# Altium footprint library MPPT_600W.PcbLib: 19 footprints (part 1 of 2)
Each footprint in its own frame and in the unit in brackets; x right, y up, seen from the top. Pads: shape width x height; smd on the part's side, far side on the other; paste and mask are expansions set on the pad; w line width, h text height; cw(c..) or ccw(c..) is an arc to the next point about the centre after c.
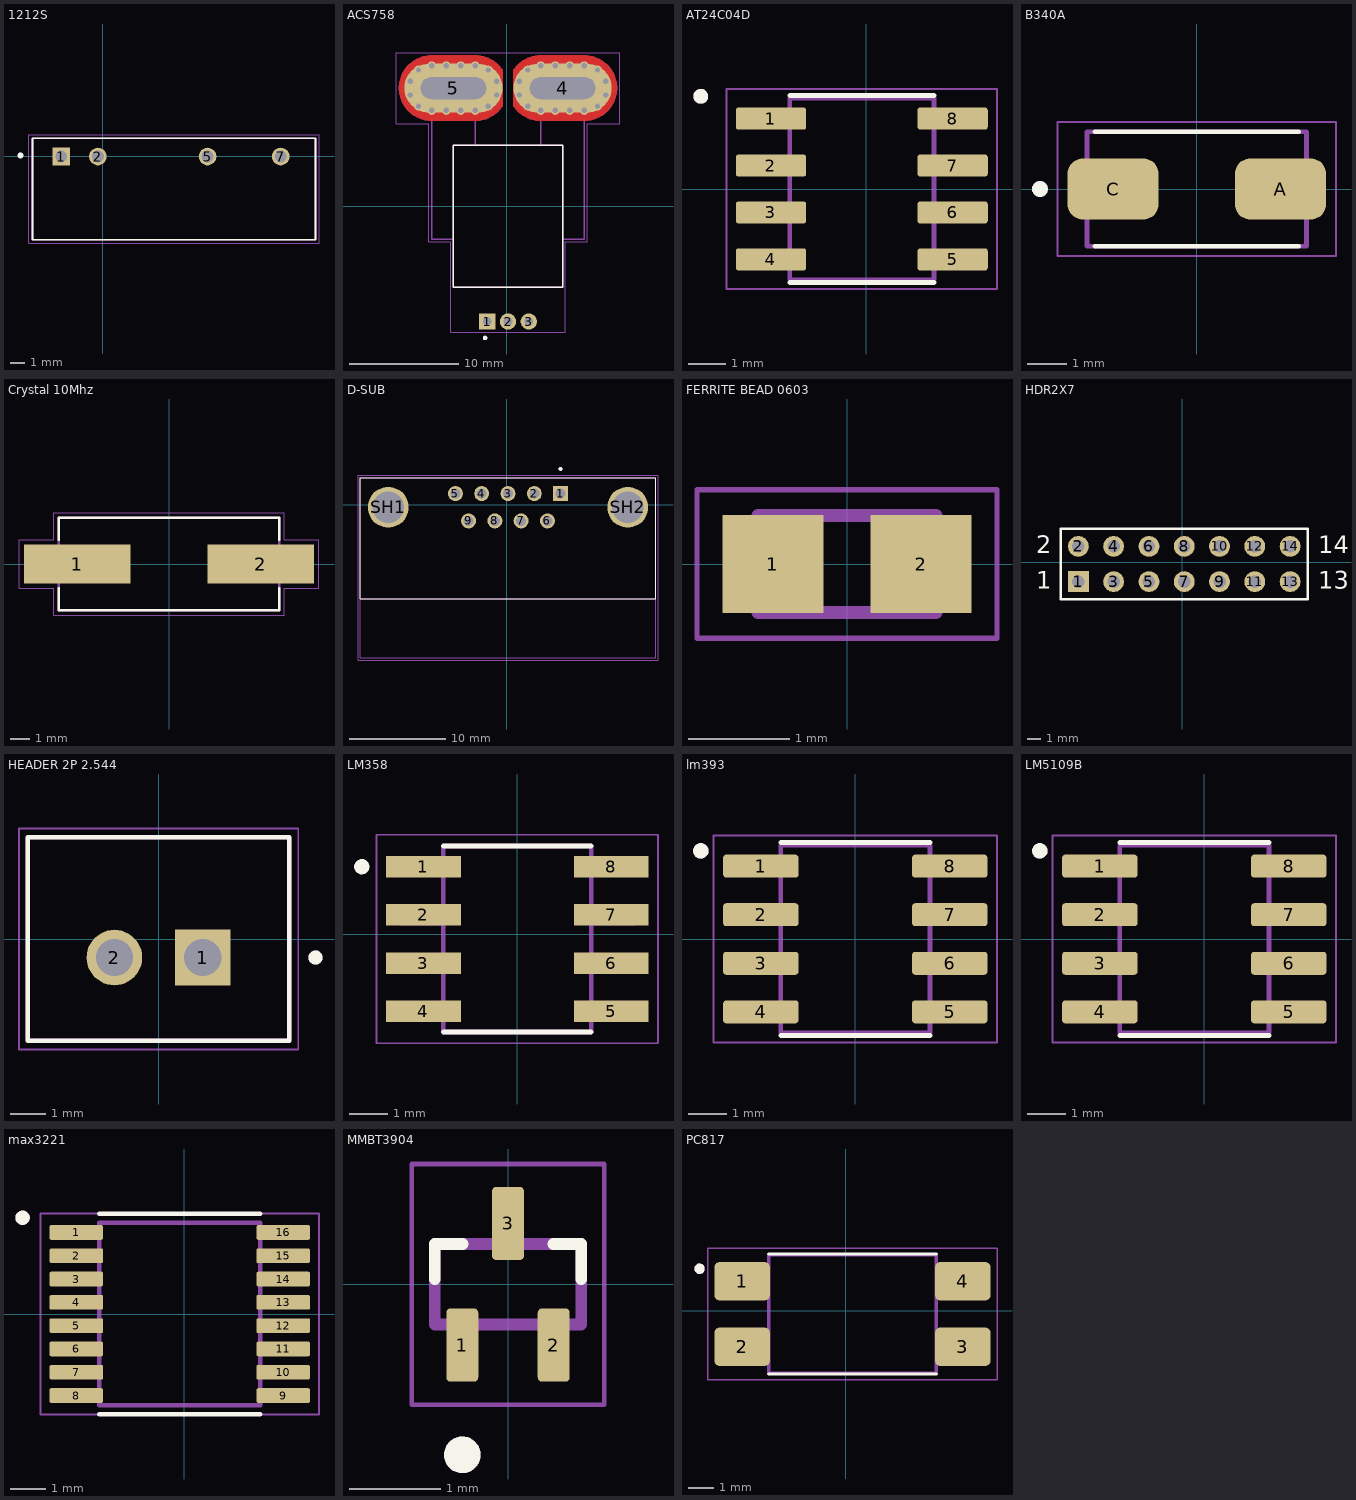
[diagram p0: the footprints below, top view; thin cyan lines are the x and y axes]

## 1212S [mm]
pads (4):
  rect 1.23x1.23 hole 0.82: 1(-2.872,-0.031)
  round 1.23 hole 0.82: 2(-0.332,-0.031) 5(7.288,-0.031) 7(12.368,-0.031)
Top Overlay:
  circle w0.2: c-5.712,0.044 r0.1
  lines w0.127: -4.872,-5.811 -4.872,1.239 14.778,1.239 14.778,-5.811 -4.872,-5.811
Mechanical 13:
  circle w0.2: c-5.712,0.044 r0.1
  lines w0.127: -4.872,-5.811 -4.872,1.239 14.778,1.239 14.778,-5.811 -4.872,-5.811
Mechanical 15:
  lines w0.05: -5.122,-6.061 -5.122,1.489 15.028,1.489 15.028,-6.061 -5.122,-6.061

## ACS758 [mm]
pads (37):
  rect 1.5x1.5 / inner round 1.5 / far side rect 1.5x1.5 hole 0.8: 1(-1.783,-10.573)
  round 1.5 hole 0.8: 2(0.127,-10.573) 3(2.037,-10.573)
  oval 9x4.5 hole 2 slot 6 at 0 deg mask+0: 4(5.127,10.827) 5(-4.873,10.827)
  round 0.8 hole 0.5: 4_1(3.127,8.777) 4_2(4.457,8.777) 4_3(5.787,8.777) 4_4(7.117,8.777) 4_5(8.332,9.169) 4_6(9.077,10.194) 4_7(9.077,11.46) 4_8(8.332,12.485) 4_9(7.117,12.877) 4_10(5.787,12.877) 4_11(4.457,12.877) 4_12(3.127,12.877) 4_13(1.922,12.485) 4_14(1.177,11.46) 4_15(1.177,10.194) 4_16(1.922,9.169) 5_1(-6.873,8.777) 5_2(-5.543,8.777) 5_3(-4.213,8.777) 5_4(-2.883,8.777) 5_5(-8.078,9.169) 5_6(-8.823,11.46) 5_7(-8.823,10.194) 5_8(-8.078,12.485) 5_9(-6.873,12.877) 5_10(-5.543,12.877) 5_11(-4.213,12.877) 5_12(-2.883,12.877) 5_13(-1.668,12.485) 5_14(-0.923,11.46) 5_15(-0.923,10.194) 5_16(-1.668,9.169)
Top Layer:
  region: 7.284,13.823 7.441,13.811 7.596,13.79 7.751,13.761 7.903,13.725 8.054,13.68 8.202,13.628 8.347,13.568 8.489,13.5 8.627,13.425 8.761,13.343 8.89,13.254 9.015,13.158 9.134,13.056 9.248,12.948 9.356,12.834 9.458,12.715 9.554,12.59 9.643,12.461 9.725,12.327 9.8,12.189 9.868,12.047 9.928,11.902 9.98,11.754 10.025,11.603 10.061,11.451 10.09,11.296 10.111,11.141 10.123,10.984 10.127,10.827 10.123,10.67 10.111,10.513 10.09,10.358 10.061,10.203 10.025,10.051 9.98,9.9 9.928,9.752 9.868,9.607 9.8,9.465 9.725,9.327 9.643,9.193 9.554,9.064 9.458,8.939 9.356,8.82 9.248,8.706 9.134,8.598 9.015,8.496 8.89,8.4 8.761,8.311 8.627,8.229 8.489,8.154 8.347,8.086 8.202,8.026 8.054,7.974 7.903,7.929 7.751,7.893 7.596,7.864 7.441,7.843 7.284,7.831 7.127,7.827 3.127,7.827 3.012,7.829 2.914,7.833 2.816,7.842 2.718,7.853 2.62,7.868 2.523,7.886 2.427,7.907 2.332,7.931 2.237,7.958 2.143,7.989 2.051,8.023 1.959,8.059 1.869,8.099 1.78,8.142 1.693,8.187 1.607,8.236 1.523,8.287 1.44,8.341 1.36,8.398 1.281,8.457 1.204,8.519 1.13,8.583 1.058,8.65 0.987,8.72 0.92,8.791 0.854,8.865 0.791,8.941 0.731,9.019 0.673,9.099 0.627,9.167 0.627,12.487 0.673,12.555 0.731,12.635 0.791,12.713 0.854,12.789 0.92,12.863 0.987,12.934 1.058,13.004 1.13,13.071 1.204,13.135 1.281,13.197 1.36,13.256 1.44,13.313 1.523,13.367 1.607,13.418 1.693,13.467 1.78,13.512 1.869,13.555 1.959,13.595 2.051,13.631 2.143,13.665 2.237,13.696 2.332,13.723 2.427,13.747 2.523,13.768 2.62,13.786 2.718,13.801 2.816,13.812 2.914,13.821 3.012,13.825 3.127,13.827 7.127,13.827
  region: -2.758,13.825 -2.66,13.821 -2.562,13.812 -2.464,13.801 -2.366,13.786 -2.269,13.768 -2.173,13.747 -2.078,13.723 -1.983,13.696 -1.889,13.665 -1.797,13.631 -1.705,13.595 -1.615,13.555 -1.526,13.512 -1.439,13.467 -1.353,13.418 -1.269,13.367 -1.186,13.313 -1.106,13.256 -1.027,13.197 -0.95,13.135 -0.876,13.071 -0.804,13.004 -0.733,12.934 -0.666,12.863 -0.6,12.789 -0.537,12.713 -0.477,12.635 -0.419,12.555 -0.373,12.487 -0.373,9.167 -0.419,9.099 -0.477,9.019 -0.537,8.941 -0.6,8.865 -0.666,8.791 -0.733,8.72 -0.804,8.65 -0.876,8.583 -0.95,8.519 -1.027,8.457 -1.106,8.398 -1.186,8.341 -1.269,8.287 -1.353,8.236 -1.439,8.187 -1.526,8.142 -1.615,8.099 -1.705,8.059 -1.797,8.023 -1.889,7.989 -1.983,7.958 -2.078,7.931 -2.173,7.907 -2.269,7.886 -2.366,7.868 -2.464,7.853 -2.562,7.842 -2.66,7.833 -2.758,7.829 -2.873,7.827 -6.873,7.827 -7.03,7.831 -7.187,7.843 -7.342,7.864 -7.497,7.893 -7.649,7.929 -7.8,7.974 -7.948,8.026 -8.093,8.086 -8.235,8.154 -8.373,8.229 -8.507,8.311 -8.636,8.4 -8.761,8.496 -8.88,8.598 -8.994,8.706 -9.102,8.82 -9.204,8.939 -9.3,9.064 -9.389,9.193 -9.471,9.327 -9.546,9.465 -9.614,9.607 -9.674,9.752 -9.726,9.9 -9.771,10.051 -9.807,10.203 -9.836,10.358 -9.857,10.513 -9.869,10.67 -9.873,10.827 -9.869,10.984 -9.857,11.141 -9.836,11.296 -9.807,11.451 -9.771,11.603 -9.726,11.754 -9.674,11.902 -9.614,12.047 -9.546,12.189 -9.471,12.327 -9.389,12.461 -9.3,12.59 -9.204,12.715 -9.102,12.834 -8.994,12.948 -8.88,13.056 -8.761,13.158 -8.636,13.254 -8.507,13.343 -8.373,13.425 -8.235,13.5 -8.093,13.568 -7.948,13.628 -7.8,13.68 -7.649,13.725 -7.497,13.761 -7.342,13.79 -7.187,13.811 -7.03,13.823 -6.873,13.827 -2.873,13.827
Bottom Layer:
  region: -2.758,13.825 -2.66,13.821 -2.562,13.812 -2.464,13.801 -2.366,13.786 -2.269,13.768 -2.173,13.747 -2.078,13.723 -1.983,13.696 -1.889,13.665 -1.797,13.631 -1.705,13.595 -1.615,13.555 -1.526,13.512 -1.439,13.467 -1.353,13.418 -1.269,13.367 -1.186,13.313 -1.106,13.256 -1.027,13.197 -0.95,13.135 -0.876,13.071 -0.804,13.004 -0.733,12.934 -0.666,12.863 -0.6,12.789 -0.537,12.713 -0.477,12.635 -0.419,12.555 -0.373,12.487 -0.373,9.167 -0.419,9.099 -0.477,9.019 -0.537,8.941 -0.6,8.865 -0.666,8.791 -0.733,8.72 -0.804,8.65 -0.876,8.583 -0.95,8.519 -1.027,8.457 -1.106,8.398 -1.186,8.341 -1.269,8.287 -1.353,8.236 -1.439,8.187 -1.526,8.142 -1.615,8.099 -1.705,8.059 -1.797,8.023 -1.889,7.989 -1.983,7.958 -2.078,7.931 -2.173,7.907 -2.269,7.886 -2.366,7.868 -2.464,7.853 -2.562,7.842 -2.66,7.833 -2.758,7.829 -2.873,7.827 -6.873,7.827 -7.03,7.831 -7.187,7.843 -7.342,7.864 -7.497,7.893 -7.649,7.929 -7.8,7.974 -7.948,8.026 -8.093,8.086 -8.235,8.154 -8.373,8.229 -8.507,8.311 -8.636,8.4 -8.761,8.496 -8.88,8.598 -8.994,8.706 -9.102,8.82 -9.204,8.939 -9.3,9.064 -9.389,9.193 -9.471,9.327 -9.546,9.465 -9.614,9.607 -9.674,9.752 -9.726,9.9 -9.771,10.051 -9.807,10.203 -9.836,10.358 -9.857,10.513 -9.869,10.67 -9.873,10.827 -9.869,10.984 -9.857,11.141 -9.836,11.296 -9.807,11.451 -9.771,11.603 -9.726,11.754 -9.674,11.902 -9.614,12.047 -9.546,12.189 -9.471,12.327 -9.389,12.461 -9.3,12.59 -9.204,12.715 -9.102,12.834 -8.994,12.948 -8.88,13.056 -8.761,13.158 -8.636,13.254 -8.507,13.343 -8.373,13.425 -8.235,13.5 -8.093,13.568 -7.948,13.628 -7.8,13.68 -7.649,13.725 -7.497,13.761 -7.342,13.79 -7.187,13.811 -7.03,13.823 -6.873,13.827 -2.873,13.827
  region: 7.284,13.823 7.441,13.811 7.596,13.79 7.751,13.761 7.903,13.725 8.054,13.68 8.202,13.628 8.347,13.568 8.489,13.5 8.627,13.425 8.761,13.343 8.89,13.254 9.015,13.158 9.134,13.056 9.248,12.948 9.356,12.834 9.458,12.715 9.554,12.59 9.643,12.461 9.725,12.327 9.8,12.189 9.868,12.047 9.928,11.902 9.98,11.754 10.025,11.603 10.061,11.451 10.09,11.296 10.111,11.141 10.123,10.984 10.127,10.827 10.123,10.67 10.111,10.513 10.09,10.358 10.061,10.203 10.025,10.051 9.98,9.9 9.928,9.752 9.868,9.607 9.8,9.465 9.725,9.327 9.643,9.193 9.554,9.064 9.458,8.939 9.356,8.82 9.248,8.706 9.134,8.598 9.015,8.496 8.89,8.4 8.761,8.311 8.627,8.229 8.489,8.154 8.347,8.086 8.202,8.026 8.054,7.974 7.903,7.929 7.751,7.893 7.596,7.864 7.441,7.843 7.284,7.831 7.127,7.827 3.127,7.827 3.012,7.829 2.914,7.833 2.816,7.842 2.718,7.853 2.62,7.868 2.523,7.886 2.427,7.907 2.332,7.931 2.237,7.958 2.143,7.989 2.051,8.023 1.959,8.059 1.869,8.099 1.78,8.142 1.693,8.187 1.607,8.236 1.523,8.287 1.44,8.341 1.36,8.398 1.281,8.457 1.204,8.519 1.13,8.583 1.058,8.65 0.987,8.72 0.92,8.791 0.854,8.865 0.791,8.941 0.731,9.019 0.673,9.099 0.627,9.167 0.627,12.487 0.673,12.555 0.731,12.635 0.791,12.713 0.854,12.789 0.92,12.863 0.987,12.934 1.058,13.004 1.13,13.071 1.204,13.135 1.281,13.197 1.36,13.256 1.44,13.313 1.523,13.367 1.607,13.418 1.693,13.467 1.78,13.512 1.869,13.555 1.959,13.595 2.051,13.631 2.143,13.665 2.237,13.696 2.332,13.723 2.427,13.747 2.523,13.768 2.62,13.786 2.718,13.801 2.816,13.812 2.914,13.821 3.012,13.825 3.127,13.827 7.127,13.827
Top Overlay:
  circle w0.2: c-1.973,-12.073 r0.1
  lines w0.127: -4.873,-7.423 5.127,-7.423 5.127,5.577 -4.873,5.577 -4.873,-7.423
Top Solder:
  drawing of 2 lines, arcs and shapes, not listed
Bottom Solder:
  drawing of 2 lines, arcs and shapes, not listed
Mechanical 1:
  lines w0: -4.873,11.827 -4.823,11.827 ; 5.127,11.827 5.177,11.827
Mechanical 13:
  circle w0.2: c-1.973,-12.073 r0.1
  lines w0.127: -2.873,5.627 -2.873,11.577 -6.873,11.577 -6.873,-3.023 -4.873,-3.023 ; 3.127,5.627 3.127,11.577 7.127,11.577 7.127,-3.023 5.127,-3.023 ; -4.873,-3.023 -4.873,-7.423 5.127,-7.423 5.127,5.577 -4.873,5.577 -4.873,-3.023
Mechanical 15:
  lines w0.05: -10.123,7.577 -7.123,7.577 -7.123,-3.273 -5.123,-3.273 -5.123,-11.573 5.377,-11.573 5.377,-3.273 7.377,-3.273 7.377,7.577 10.377,7.577 10.377,14.077 -10.123,14.077 -10.123,7.577
3D body "step_temp.STEP": height 7.1, standoff -3.5, extent -6.873,-11.102 7.127,11.484

## AT24C04D [mm]
pads (8):
  rrect25% 1.9x0.6 smd: 1(-2.582,1.905) 2(-2.582,0.635) 3(-2.582,-0.635) 4(-2.582,-1.905) 5(2.328,-1.905) 6(2.328,-0.635) 7(2.328,0.635) 8(2.328,1.905)
Top Overlay:
  circle w0.2: c-4.482,2.505 r0.1
  lines w0.127: -2.077,-2.525 1.823,-2.525 ; -2.077,2.525 1.823,2.525
Mechanical 13:
  circle w0.2: c-4.482,2.505 r0.1
  lines w0.127: -2.077,-2.45 -2.077,2.45 1.823,2.45 1.823,-2.45 -2.077,-2.45
Mechanical 15:
  lines w0.05: -3.782,-2.7 -3.782,2.7 3.528,2.7 3.528,-2.7 -3.782,-2.7
3D body "step_temp.STEP": height 1.75, standoff 0, extent -3.127,-2.45 2.873,2.45

## B340A [mm]
pads (2):
  rrect50% 2.33x1.55 smd: A(2.135,0) C(-2.135,0)
Top Overlay:
  circle w0.2: c-4,0 r0.1
  lines w0.127: -2.6,-1.46 2.6,-1.46 ; -2.6,1.46 2.6,1.46
Mechanical 13:
  circle w0.2: c-4,0 r0.1
  lines w0.127: -2.8,-1.46 -2.8,1.46 2.8,1.46 2.8,-1.46 -2.8,-1.46
Mechanical 15:
  lines w0.05: -3.55,-1.71 -3.55,1.71 3.55,1.71 3.55,-1.71 -3.55,-1.71
3D body "step_temp.STEP": height 2.4, standoff 0, extent -2.598,-1.302 2.598,1.302

## Crystal 10Mhz [mm]
pads (2):
  rect 5.5x2 smd: 1(-4.75,0) 2(4.75,0)
Top Overlay:
  lines w0.127: -5.7,-1.254 -5.7,-2.4 5.7,-2.4 5.7,-1.254 ; -5.7,1.254 -5.7,2.4 5.7,2.4 5.7,1.254
Mechanical 13:
  lines w0.127: -5.7,-2.4 -5.7,2.4 5.7,2.4 5.7,-2.4 -5.7,-2.4
Mechanical 15:
  lines w0.05: -7.75,-1.25 -5.95,-1.25 -5.95,-2.65 5.95,-2.65 5.95,-1.25 7.75,-1.25 7.75,1.25 5.95,1.25 5.95,2.65 -5.95,2.65 -5.95,1.25 -7.75,1.25 -7.75,-1.25
3D body "step_temp.STEP": height 3.2, standoff 0, extent -6.6,-2.4 6.6,2.4

## D-SUB [mil]
pads (11):
  rect 61.5x61.5 / inner round 61.5 / far side rect 61.5x61.5 hole 41: 1(221,46)
  round 61.5 hole 41: 2(113,46) 3(5,46) 4(-103,46) 5(-211,46) 6(167,-66) 7(59,-66) 8(-49,-66) 9(-157,-66)
  round 168 hole 128: SH1(-487,-10) SH2(497,-10)
Top Overlay:
  circle w7.87: c221,147.48 r3.94
  lines w5: -601.5,-385 -601.5,112 611.5,112 611.5,-385 -601.5,-385
Mechanical 13:
  circle w7.87: c221,147.48 r3.94
  lines w5: -601.5,-385 -601.5,112 611.5,112 611.5,-385 ; -601.5,-385 -601.5,-628 611.5,-628 611.5,-385 ; -601.5,-385 611.5,-385
Mechanical 15:
  lines w1.97: -611.34,-637.84 621.34,-637.84 621.34,121.84 -611.34,121.84 -611.34,-637.84
3D body "D SUB 9PIN  FEMALE Black.STEP": height 541.84, standoff -101.96, extent -601.3,-616.54 611.3,100

## FERRITE BEAD 0603 [mm]
pads (2):
  rect 1x0.97 smd: 1(-0.735,0) 2(0.735,0)
Mechanical 13:
  lines w0.127: -0.88,-0.48 0.88,-0.48 0.88,0.48 -0.88,0.48 -0.88,-0.48
Mechanical 15:
  lines w0.05: -1.485,-0.735 1.485,-0.735 1.485,0.735 -1.485,0.735 -1.485,-0.735
3D body "step_temp.STEP": height 0.65, standoff 0, extent -0.8,-0.4 0.8,0.4

## HDR2X7 [mm]
pads (14):
  rect 1.5x1.5 hole 0.9: 1(-7.493,-1.397)
  round 1.5 hole 0.9: 2(-7.493,1.143) 3(-4.953,-1.397) 4(-4.953,1.143) 5(-2.413,-1.397) 6(-2.413,1.143) 7(0.127,-1.397) 8(0.127,1.143) 9(2.667,-1.397) 10(2.667,1.143) 11(5.207,-1.397) 12(5.207,1.143) 13(7.747,-1.397) 14(7.747,1.143)
Top Overlay:
  lines w0.2: -8.763,-2.667 -8.763,2.413 9.017,2.413 9.017,-2.667 -8.763,-2.667
  text "2" at -10.541,0.635 h1.27
  text "1" at -10.541,-1.905 h1.27
  text "14" at 9.779,0.635 h1.27
  text "13" at 9.779,-1.905 h1.27
3D body "2.54mm box header(through hole type) 14 pin.STEP": height 9.1, standoff -3, extent -12.563,-4.699 12.817,4.301

## HEADER 2P 2.544 [mm]
pads (2):
  rect 1.575x1.575 / inner round 1.575 / far side rect 1.575x1.575 hole 1.05: 1(1.25,-0.525)
  round 1.575 hole 1.05: 2(-1.25,-0.525)
Top Overlay:
  circle w0.2: c4.44,-0.525 r0.1
  lines w0.127: -3.7,-2.875 -3.7,2.875 3.7,2.875 3.7,-2.875 -3.7,-2.875
Mechanical 13:
  circle w0.2: c4.44,-0.525 r0.1
  lines w0.127: -3.7,-2.875 -3.7,2.875 3.7,2.875 3.7,-2.875 -3.7,-2.875
Mechanical 15:
  lines w0.05: -3.95,-3.125 3.95,-3.125 3.95,3.125 -3.95,3.125 -3.95,-3.125
3D body "B2B-XH-A--3DModel-STEP-56544.STEP": height 7, standoff -3.4, extent -3.573,-2.794 3.827,2.956

## LM358 [mm]
pads (8):
  rect 1.97x0.57 smd: 1(-2.475,1.778) 2(-2.475,0.508) 3(-2.475,-0.762) 4(-2.475,-2.032) 5(2.475,-2.032) 6(2.475,-0.762) 7(2.475,0.508) 8(2.475,1.778)
Top Overlay:
  circle w0.2: c-4.1,1.778 r0.1
  lines w0.127: -1.95,-2.577 1.95,-2.577 ; -1.95,2.323 1.95,2.323
Mechanical 13:
  lines w0: -3.099,-2.286 -3.099,-1.778 -2.007,-1.778 -2.007,-2.286 -3.099,-2.286 ; -3.099,-1.016 -3.099,-0.508 -2.007,-0.508 -2.007,-1.016 -3.099,-1.016 ; -3.099,0.254 -3.099,0.762 -2.007,0.762 -2.007,0.254 -3.099,0.254 ; -3.099,1.524 -3.099,2.032 -2.007,2.032 -2.007,1.524 -3.099,1.524 ; 2.007,-2.286 2.007,-1.778 3.099,-1.778 3.099,-2.286 2.007,-2.286 ; 2.007,-1.016 2.007,-0.508 3.099,-0.508 3.099,-1.016 2.007,-1.016 ; 2.007,0.254 2.007,0.762 3.099,0.762 3.099,0.254 2.007,0.254 ; 2.007,1.524 2.007,2.032 3.099,2.032 3.099,1.524 2.007,1.524
  lines w0.127: -1.95,-2.577 1.95,-2.577 1.95,2.323 -1.95,2.323 -1.95,-2.577
Mechanical 15:
  lines w0.05: -3.71,-2.877 3.71,-2.877 3.71,2.623 -3.71,2.623 -3.71,-2.877
3D body "LM358DT.STEP": height 1.66, standoff -0.09, extent -3,-2.577 3,2.323

## lm393 [mm]
pads (8):
  rrect25% 1.97x0.6 smd: 1(-2.47,1.905) 2(-2.47,0.635) 3(-2.47,-0.635) 4(-2.47,-1.905) 5(2.47,-1.905) 6(2.47,-0.635) 7(2.47,0.635) 8(2.47,1.905)
Top Overlay:
  circle w0.2: c-4.04,2.305 r0.1
  lines w0.127: -1.95,-2.525 1.95,-2.525 ; -1.95,2.525 1.95,2.525
Mechanical 13:
  circle w0.2: c-4.04,2.305 r0.1
  lines w0.127: -1.95,-2.452 -1.95,2.452 1.95,2.452 1.95,-2.452 -1.95,-2.452
Mechanical 15:
  lines w0.05: -3.705,-2.702 -3.705,2.702 3.705,2.702 3.705,-2.702 -3.705,-2.702
3D body "step_temp.STEP": height 1.75, standoff 0, extent -3,-2.45 3,2.45

## LM5109B [mm]
pads (8):
  rrect25% 1.97x0.6 smd: 1(-2.724,1.905) 2(-2.724,0.635) 3(-2.724,-0.635) 4(-2.724,-1.905) 5(2.216,-1.905) 6(2.216,-0.635) 7(2.216,0.635) 8(2.216,1.905)
Top Overlay:
  circle w0.2: c-4.294,2.305 r0.1
  lines w0.127: -2.204,-2.525 1.696,-2.525 ; -2.204,2.525 1.696,2.525
Mechanical 13:
  circle w0.2: c-4.294,2.305 r0.1
  lines w0.127: -2.204,-2.452 -2.204,2.452 1.696,2.452 1.696,-2.452 -2.204,-2.452
Mechanical 15:
  lines w0.05: -3.959,-2.702 -3.959,2.702 3.451,2.702 3.451,-2.702 -3.959,-2.702
3D body "step_temp.STEP": height 1.75, standoff 0, extent -3.254,-2.45 2.746,2.45

## max3221 [mm]
pads (16):
  rrect25% 1.5x0.41 smd: 1(-3.012,2.275) 2(-3.012,1.625) 3(-3.012,0.975) 4(-3.012,0.325) 5(-3.012,-0.325) 6(-3.012,-0.975) 7(-3.012,-1.625) 8(-3.012,-2.275) 9(2.758,-2.275) 10(2.758,-1.625) 11(2.758,-0.975) 12(2.758,-0.325) 13(2.758,0.325) 14(2.758,0.975) 15(2.758,1.625) 16(2.758,2.275)
Top Overlay:
  circle w0.2: c-4.512,2.685 r0.1
  lines w0.127: -2.377,-2.8 2.123,-2.8 ; -2.377,2.8 2.123,2.8
Mechanical 13:
  circle w0.2: c-4.512,2.685 r0.1
  lines w0.127: -2.377,-2.55 -2.377,2.55 2.123,2.55 2.123,-2.55 -2.377,-2.55
Mechanical 15:
  lines w0.05: -4.012,-2.8 -4.012,2.8 3.758,2.8 3.758,-2.8 -4.012,-2.8
3D body "step_temp.STEP": height 1.1, standoff 0, extent -3.327,-2.5 3.073,2.5

## MMBT3904 [mm]
pads (3):
  rrect25% 0.35x0.8 smd: 1(-0.5,-0.665) 2(0.5,-0.665) 3(0,0.665)
Top Overlay:
  circle w0.2: c-0.5,-1.865 r0.1
  lines w0.127: -0.8,0.055 -0.8,0.44 -0.495,0.44 ; 0.495,0.44 0.8,0.44 0.8,0.055
Mechanical 13:
  circle w0.2: c-0.5,-1.865 r0.1
  lines w0.127: -0.8,-0.44 0.8,-0.44 0.8,0.44 -0.8,0.44 -0.8,-0.44
Mechanical 15:
  lines w0.05: -1.05,-1.315 1.05,-1.315 1.05,1.315 -1.05,1.315 -1.05,-1.315
3D body "step_temp.STEP": height 1.2, standoff -0.1, extent -1.647,-1.457 1.393,1.143

## PC817 [mm]
pads (4):
  rrect25% 2.15x1.48 smd: 1(-4.026,1.143) 2(-4.026,-1.397) 3(4.534,-1.397) 4(4.534,1.143)
Top Overlay:
  circle w0.2: c-5.676,1.628 r0.1
  lines w0.127: -2.996,-2.457 3.504,-2.457 ; -2.996,2.203 3.504,2.203
Mechanical 13:
  circle w0.2: c-5.676,1.628 r0.1
  lines w0.127: -2.996,-2.427 3.504,-2.427 3.504,2.173 -2.996,2.173 -2.996,-2.427
Mechanical 15:
  lines w0.05: -5.351,-2.677 5.859,-2.677 5.859,2.423 -5.351,2.423 -5.351,-2.677
3D body "step_temp.STEP": height 4.2, standoff 0, extent -4.546,-2.427 5.054,2.173

## PCBComponent_1 [mm]